# EAGLE library part MOOG-VCF-V1.2 (library XM8)
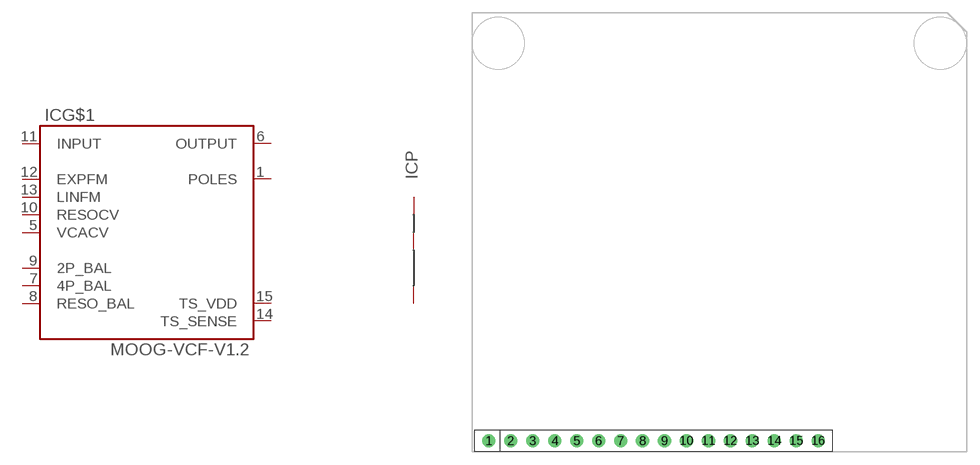
[diagram p32: symbol with the pads of XM8-MOOG-VCF-V1.2H-TOP; footprint XM8-MOOG-VCF-V1.2H-TOP]

Designator prefix IC; gates P=XM8-PWR G$1=XM8-MOOG-VCF-V1.2

## MOOG-VCF-V1.2  [XM8-MOOG-VCF-V1.2H-TOP]
1  G$1:POLES
2  P:-V  pwr
3  P:AGND  pwr
4  P:+V  pwr
5  G$1:VCACV
6  G$1:OUTPUT
7  G$1:4P_BAL
8  G$1:RESO_BAL
9  G$1:2P_BAL
10  G$1:RESOCV
11  G$1:INPUT
12  G$1:EXPFM
13  G$1:LINFM
14  G$1:TS_SENSE
15  G$1:TS_VDD

## Footprint XM8-MOOG-VCF-V1.2H-TOP (pad centres in mm)
Xonik Moog filter, top mount, card is mounted upside down.
drill 1.016: 1 -19.05,0; 2 -16.51,0; 3 -13.97,0; 4 -11.43,0; 5 -8.89,0; 6 -6.35,0; 7 -3.81,0; 8 -1.27,0; 9 1.27,0; 10 3.81,0; 11 6.35,0; 12 8.89,0; 13 11.43,0; 14 13.97,0; 15 16.51,0; 16 19.05,0